# EAGLE library part 74HC42D,652 (library NXP_By_element14_Batch_1)
BCD to decimal decoder
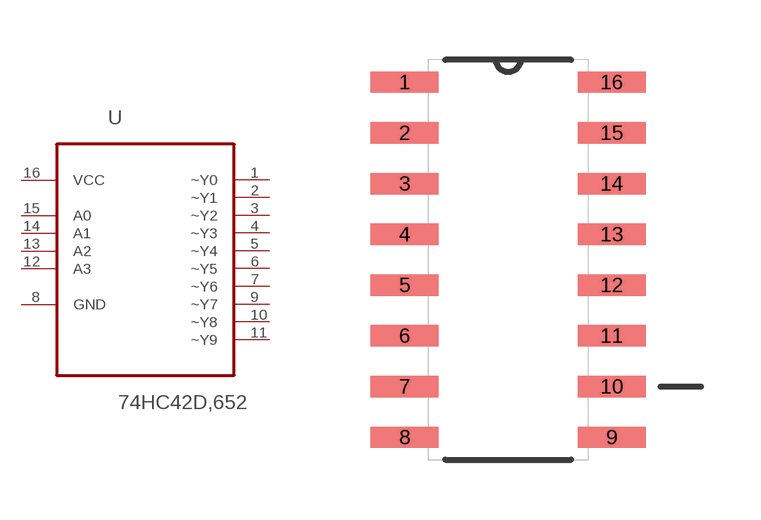
[diagram p129: symbol with the pads of SOIC127P600X175-16N; footprint SOIC127P600X175-16N]

Designator prefix U

## 74HC42D,652 (MPN: 74HC42D,652; OC_FARNELL: 1868624; OC_NEWARK: 71R2568; P1I: o; PACKAGE: SOIC-16; SUPPLIER: NXP)  [SOIC127P600X175-16N]
1  ~Y0  out
2  ~Y1  out
3  ~Y2  out
4  ~Y3  out
5  ~Y4  out
6  ~Y5  out
7  ~Y6  out
8  GND  pas
9  ~Y7  out
10  ~Y8  out
11  ~Y9  out
12  A3  in
13  A2  in
14  A1  in
15  A0  in
16  VCC  pwr

## Footprint SOIC127P600X175-16N (pad centres in mm)
smd 1.702 x 0.533: 1 -2.591,4.445; 2 -2.591,3.175; 3 -2.591,1.905; 4 -2.591,0.635; 5 -2.591,-0.635; 6 -2.591,-1.905; 7 -2.591,-3.175; 8 -2.591,-4.445; 9 2.591,-4.445; 10 2.591,-3.175; 11 2.591,-1.905; 12 2.591,-0.635; 13 2.591,0.635; 14 2.591,1.905; 15 2.591,3.175; 16 2.591,4.445